# EAGLE library part TEN60-S24-P6-VERT (library Connectors)
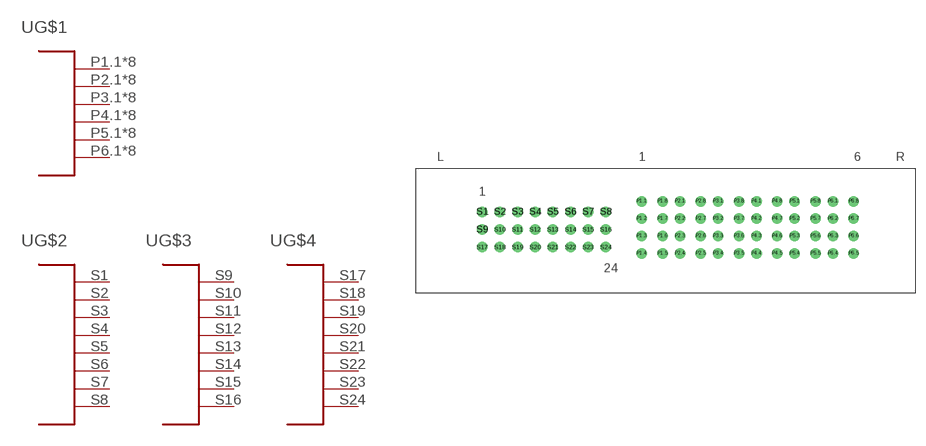
[diagram p4: symbol with the pads of TEN60-S24-P6-VERT; footprint TEN60-S24-P6-VERT]

Designator prefix -; gates G$1=TEN60-6-PWR G$2=TEN60-8-SIG G$3=TEN60-8-SIG G$4=TEN60-8-SIG

## TEN60-S24-P6-VERT  [TEN60-S24-P6-VERT]
P1.1  G$1:P$1
P1.2  G$1:P$1
P1.3  G$1:P$1
P1.4  G$1:P$1
P1.5  G$1:P$1
P1.6  G$1:P$1
P1.7  G$1:P$1
P1.8  G$1:P$1
P2.1  G$1:P$2
P2.2  G$1:P$2
P2.3  G$1:P$2
P2.4  G$1:P$2
P2.5  G$1:P$2
P2.6  G$1:P$2
P2.7  G$1:P$2
P2.8  G$1:P$2
P3.1  G$1:P$3
P3.2  G$1:P$3
P3.3  G$1:P$3
P3.4  G$1:P$3
P3.5  G$1:P$3
P3.6  G$1:P$3
P3.7  G$1:P$3
P3.8  G$1:P$3
P4.1  G$1:P$4
P4.2  G$1:P$4
P4.3  G$1:P$4
P4.4  G$1:P$4
P4.5  G$1:P$4
P4.6  G$1:P$4
P4.7  G$1:P$4
P4.8  G$1:P$4
P5.1  G$1:P$5
P5.2  G$1:P$5
P5.3  G$1:P$5
P5.4  G$1:P$5
P5.5  G$1:P$5
P5.6  G$1:P$5
P5.7  G$1:P$5
P5.8  G$1:P$5
P6.1  G$1:P$6
P6.2  G$1:P$6
P6.3  G$1:P$6
P6.4  G$1:P$6
P6.5  G$1:P$6
P6.6  G$1:P$6
P6.7  G$1:P$6
P6.8  G$1:P$6
S1  G$2:P$1
S2  G$2:P$2
S3  G$2:P$3
S4  G$2:P$4
S5  G$2:P$5
S6  G$2:P$6
S7  G$2:P$7
S8  G$2:P$8
S9  G$3:P$1
S10  G$3:P$2
S11  G$3:P$3
S12  G$3:P$4
S13  G$3:P$5
S14  G$3:P$6
S15  G$3:P$7
S16  G$3:P$8
S17  G$4:P$1
S18  G$4:P$2
S19  G$4:P$3
S20  G$4:P$4
S21  G$4:P$5
S22  G$4:P$6
S23  G$4:P$7
S24  G$4:P$8

## Footprint TEN60-S24-P6-VERT (pad centres in mm)
drill 1: P1.1 32.44,13.25; P1.2 32.44,10.75; P1.3 32.44,8.25; P1.4 32.44,5.75; P1.5 35.44,5.75; P1.6 35.44,8.25; P1.7 35.44,10.75; P1.8 35.44,13.25; P2.1 37.94,13.25; P2.2 37.94,10.75; P2.3 37.94,8.25; P2.4 37.94,5.75; P2.5 40.94,5.75; P2.6 40.94,8.25; P2.7 40.94,10.75; P2.8 40.94,13.25; P3.1 43.44,13.25; P3.2 43.44,10.75; P3.3 43.44,8.25; P3.4 43.44,5.75; P3.5 46.44,5.75; P3.6 46.44,8.25; P3.7 46.44,10.75; P3.8 46.44,13.25; P4.1 48.94,13.25; P4.2 48.94,10.75; P4.3 48.94,8.25; P4.4 48.94,5.75; P4.5 51.94,5.75; P4.6 51.94,8.25; P4.7 51.94,10.75; P4.8 51.94,13.25; P5.1 54.44,13.25; P5.2 54.44,10.75; P5.3 54.44,8.25; P5.4 54.44,5.75; P5.5 57.44,5.75; P5.6 57.44,8.25; P5.7 57.44,10.75; P5.8 57.44,13.25; P6.1 59.94,13.25; P6.2 59.94,10.75; P6.3 59.94,8.25; P6.4 59.94,5.75; P6.5 62.94,5.75; P6.6 62.94,8.25; P6.7 62.94,10.75; P6.8 62.94,13.25; S1 9.49,11.74; S2 12.03,11.74; S3 14.57,11.74; S4 17.11,11.74; S5 19.65,11.74; S6 22.19,11.74; S7 24.73,11.74; S8 27.27,11.74; S9 9.49,9.2; S10 12.03,9.2; S11 14.57,9.2; S12 17.11,9.2; S13 19.65,9.2; S14 22.19,9.2; S15 24.73,9.2; S16 27.27,9.2; S17 9.49,6.66; S18 12.03,6.66; S19 14.57,6.66; S20 17.11,6.66; S21 19.65,6.66; S22 22.19,6.66; S23 24.73,6.66; S24 27.27,6.66